# EAGLE library part 741034 (library KwanSystems)
Hex Driver, Non-inverting SN74AS1034 is capable of 48mA source/sink Digikey 296-33790-5-ND
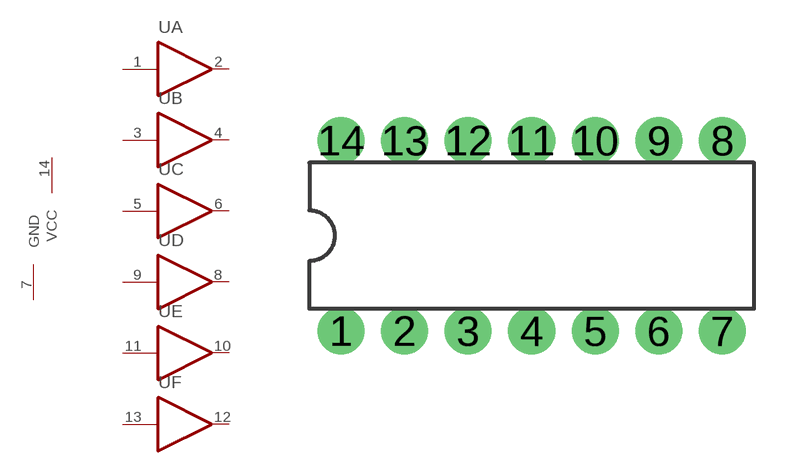
[diagram p42: symbol with the pads of DIL-14; footprint DIL-14]

Designator prefix -; gates A=BUFFER B=BUFFER C=BUFFER D=BUFFER E=BUFFER F=BUFFER G$7=PWR

## 741034  [DIL-14]
1  A:IN  in
2  A:OUT
3  B:IN  in
4  B:OUT
5  C:IN  in
6  C:OUT
7  G$7:GND
8  D:OUT
9  D:IN  in
10  E:OUT
11  E:IN  in
12  F:OUT
13  F:IN  in
14  G$7:VCC

## Footprint DIL-14 (pad centres in mm)
drill 1.016 pad 1.88: 1 -7.62,-3.81; 2 -5.08,-3.81; 3 -2.54,-3.81; 4 0,-3.81; 5 2.54,-3.81; 6 5.08,-3.81; 7 7.62,-3.81; 8 7.62,3.81; 9 5.08,3.81; 10 2.54,3.81; 11 0,3.81; 12 -2.54,3.81; 13 -5.08,3.81; 14 -7.62,3.81